# EAGLE library part CY7C1069AV33B (library memory-sram)
2M x 8 Static RAM Source: CYPRESS cy7c1069av33_8.pdf
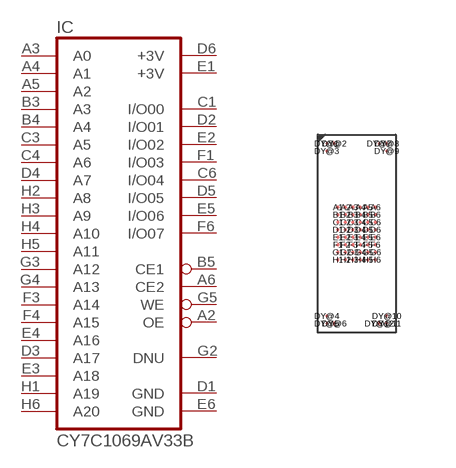
[diagram p3: symbol with the pads of FBGA60-8X20; footprint FBGA60-8X20]

Designator prefix IC

## CY7C1069AV33B  [FBGA60-8X20]
A2  OE  in
A3  A0  in
A4  A1  in
A5  A2  in
A6  CE2  in
B3  A3  in
B4  A4  in
B5  CE1  in
C1  I/O00
C3  A5  in
C4  A6  in
C6  I/O04
D1  GND  pwr
D2  I/O01
D3  A17  in
D4  A7  in
D5  I/O05
D6  +3V  pwr
E1  +3V  pwr
E2  I/O02
E3  A18  in
E4  A16  in
E5  I/O06
E6  GND  pwr
F1  I/O03
F3  A14  in
F4  A15  in
F6  I/O07
G2  DNU  pas
G3  A12  in
G4  A13  in
G5  WE  in
H1  A19  in
H2  A8  in
H3  A9  in
H4  A10  in
H5  A11  in
H6  A20  in

## Footprint FBGA60-8X20 (pad centres in mm)
60-ball FBGA (8 mm x 20 mm x 1.2 mm) (51-85162) Source: CYPRESS cy7c1069av33_8.pdf
smd 0.075 x 0.075: A1 -0.469,0.656; A2 -0.281,0.656; A3 -0.094,0.656; A4 0.094,0.656; A5 0.281,0.656; A6 0.469,0.656; B1 -0.469,0.469; B2 -0.281,0.469; B3 -0.094,0.469; B4 0.094,0.469; B5 0.281,0.469; B6 0.469,0.469; C1 -0.469,0.281; C2 -0.281,0.281; C3 -0.094,0.281; C4 0.094,0.281; C5 0.281,0.281; C6 0.469,0.281; D1 -0.469,0.094; D2 -0.281,0.094; D3 -0.094,0.094; D4 0.094,0.094; D5 0.281,0.094; D6 0.469,0.094; DY@1 -0.75,2.25; DY@2 -0.562,2.25; DY@3 -0.75,2.062; DY@4 -0.75,-2.062; DY@5 -0.75,-2.25; DY@6 -0.562,-2.25; DY@7 0.562,2.25; DY@8 0.75,2.25; DY@9 0.75,2.062; DY@10 0.75,-2.062; DY@11 0.75,-2.25; DY@12 0.562,-2.25; E1 -0.469,-0.094; E2 -0.281,-0.094; E3 -0.094,-0.094; E4 0.094,-0.094; E5 0.281,-0.094; E6 0.469,-0.094; F1 -0.469,-0.281; F2 -0.281,-0.281; F3 -0.094,-0.281; F4 0.094,-0.281; F5 0.281,-0.281; F6 0.469,-0.281; G1 -0.469,-0.469; G2 -0.281,-0.469; G3 -0.094,-0.469; G4 0.094,-0.469; G5 0.281,-0.469; G6 0.469,-0.469; H1 -0.469,-0.656; H2 -0.281,-0.656; H3 -0.094,-0.656; H4 0.094,-0.656; H5 0.281,-0.656; H6 0.469,-0.656